# EAGLE library part OPA2340 (library anykey)
Dual Op Amp, rail to rail, single supply, 2.5-5.5V, 6MHz
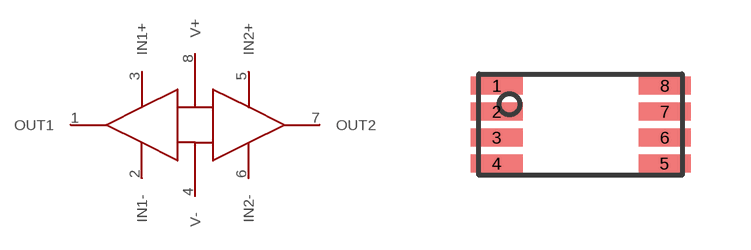
[diagram p4: symbol with the pads of MSOP8; footprint MSOP8]

Designator prefix -

## OPA2340  [MSOP8]
1  OUT1  out
2  IN1-  in
3  IN1+  in
4  V-  pwr
5  IN2+  in
6  IN2-  in
7  OUT2  out
8  V+  pwr

## Footprint MSOP8 (pad centres in mm)
smd 1.3 x 0.45: 1 -2.1,0.975; 2 -2.1,0.325; 3 -2.1,-0.325; 4 -2.1,-0.975; 5 2.1,-0.975; 6 2.1,-0.325; 7 2.1,0.325; 8 2.1,0.975